# Altium schematic symbol library MILL-MAX_897-43-005-00-100001.SchLib: 1 symbol
Pins are listed as number, name and electrical type; pins without a type are passive.

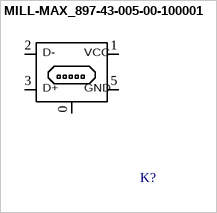
[diagram p0: symbol MILL-MAX_897-43-005-00-100001]

## MILL-MAX_897-43-005-00-100001
designator K?, comment USB-OTG  (value not drawn)
MINI USB B DEVICE CONNECTOR MOLEX 51387-0571; Manufacturer: Mill-Max Manufacturing Corp.; MPN: 897-43-005-00-100001; Digi-Key: ED90341CT-ND; Farnell: 1925220
footprint MILL-MAX_897-43-005-00-100001 (USB-MINI-B  SMD Connector)
pins: 0 Shield, 1 VB, 2 D-, 3 D+, 5 GD
text: VCC; GND